# EAGLE library part RN42-EK (library RN42)
Microchip RN42 Bluetooth Evaluation Kit <http://www.microchip.com/Developmenttools/ProductDetails.aspx?PartNO=RN-42-EK>
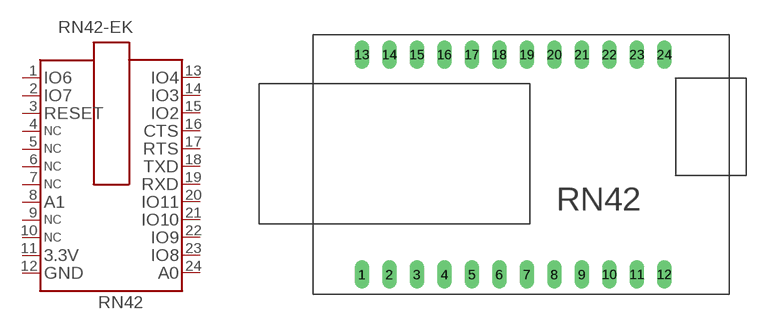
[diagram p0: symbol with the pads of RN42-EK-PKG; footprint RN42-EK-PKG]

Designator prefix IC

## RN42-EK-9  [RN42-EK-PKG]
1  1  pas
2  2  pas
3  3  pas
4  4  pas
5  5  pas
6  6  pas
7  7  pas
8  8  pas
9  9  pas
10  10  pas
11  11  pas
12  12  pas
13  13  pas
14  14  pas
15  15  pas
16  16  pas
17  17  pas
18  18  pas
19  19  pas
20  20  pas
21  21  pas
22  22  pas
23  23  pas
24  24  pas

## Footprint RN42-EK-PKG (pad centres in mm)
Microchip RN42 Bluetooth Evaluation Kit <http://www.microchip.com/Developmenttools/ProductDetails.aspx?PartNO=RN-42-EK>
drill 0.813 long: 1 -13.97,-10.16; 2 -11.43,-10.16; 3 -8.89,-10.16; 4 -6.35,-10.16; 5 -3.81,-10.16; 6 -1.27,-10.16; 7 1.27,-10.16; 8 3.81,-10.16; 9 6.35,-10.16; 10 8.89,-10.16; 11 11.43,-10.16; 12 13.97,-10.16; 13 -13.97,10.16; 14 -11.43,10.16; 15 -8.89,10.16; 16 -6.35,10.16; 17 -3.81,10.16; 18 -1.27,10.16; 19 1.27,10.16; 20 3.81,10.16; 21 6.35,10.16; 22 8.89,10.16; 23 11.43,10.16; 24 13.97,10.16